# Altium schematic symbol library Motor Step.Schlib: 1 symbol
Pins are listed as number, name and electrical type; pins without a type are passive.

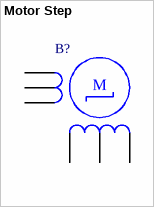
[diagram p0: symbol Motor Step]

## Motor Step
designator B?
Motor Stepper
pins: 1, 2, 3, 4, 5, 6
text: M